# EAGLE library part MOLEX-105017-0001-MICROB (library jonsowman)
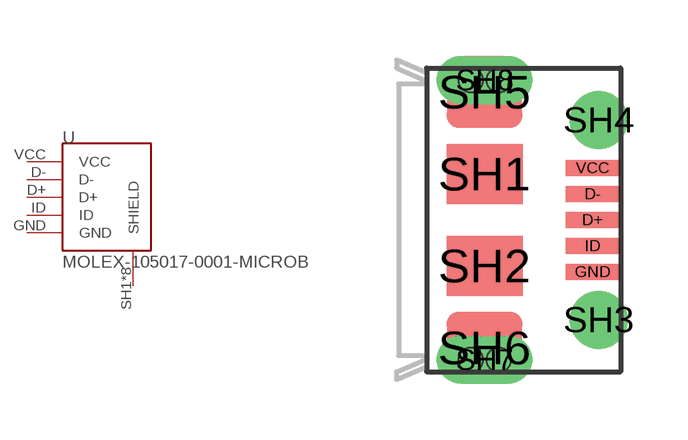
[diagram p26: symbol with the pads of MOLEX_105017-0001; footprint MOLEX_105017-0001]

Designator prefix -

## MOLEX-105017-0001-MICROB  [MOLEX_105017-0001]
D+  D+
D-  D-
GND  GND  pwr
ID  ID
SH1  SHIELD
SH2  SHIELD
SH3  SHIELD
SH4  SHIELD
SH5  SHIELD
SH6  SHIELD
SH7  SHIELD
SH8  SHIELD
VCC  VCC  pwr

## Footprint MOLEX_105017-0001 (pad centres in mm)
smd 1.35 x 0.4: D+ 2.7,0; D- 2.7,0.65; GND 2.7,-1.3; ID 2.7,-0.65; VCC 2.7,1.3
smd 1.9 x 1.5: SH1 0,1.15; SH2 0,-1.15
drill 0.85 pad 1.45: SH3 2.855,-2.5; SH4 2.855,2.5
smd 1.9 x 1.8: SH5 0,3.2; SH6 0,-3.2
drill 0.6 pad 1.2 long: SH7 0,-3.5; SH8 0,3.5
hole 0.6 at -0.35,-3.5
hole 0.6 at 0.35,-3.5
hole 0.6 at -0.35,3.5
hole 0.6 at 0.35,3.5